# Altium footprint library RES_100W.PcbLib: 1 footprints
Each footprint in its own frame and in the unit in brackets; x right, y up, seen from the top. Pads: shape width x height; smd on the part's side, far side on the other; paste and mask are expansions set on the pad; w line width, h text height; cw(c..) or ccw(c..) is an arc to the next point about the centre after c.
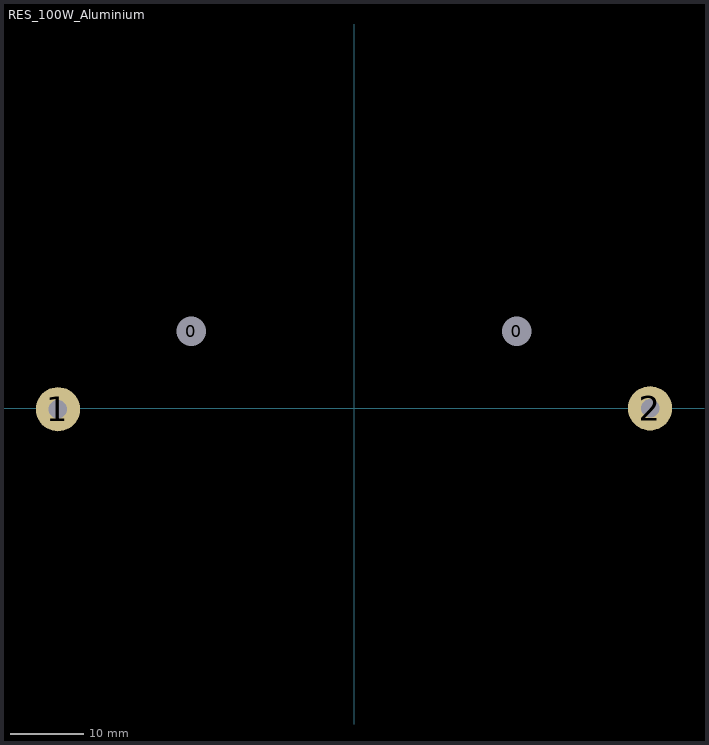
[diagram p0: the footprint, top view; thin cyan lines are the x and y axes]

## RES_100W_Aluminium [mm]
pads (4):
  round 3 hole 4: 0(-22.098,10.414) 0(21.971,10.414)
  round 6 hole 2.5: 1(-40.132,-0.127) 2(40.005,0)
3D body "Резюк.STEP": height 15.36, standoff -2.5, extent -43.074,-7.579 42.926,13.421